# Altium schematic symbol library GlobalTop-FGPMMOPA6C_PA6C.LIB-Altium.SchLib: 1 symbol
Pins are listed as number, name and electrical type; pins without a type are passive.

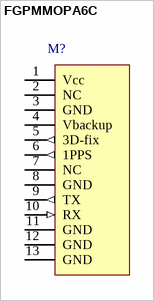
[diagram p0: symbol FGPMMOPA6C]

## FGPMMOPA6C
designator M?
GlobalTop PA6C
footprint FGPMMOPA6C (GlobalTop PA6C GPS module)
pins: 1 Vcc (power) "Main DC Power Input", 2 NC "Reset Input, Low Active", 3 GND (power) "ground", 4 Vbackup (power) "Backup Power Input for RTC & Navigation Data Retention", 5 3D-fix (out) "3D-Fix Indicator", 6 1PPS (out) "USB port D+", 7 NC "USB port D-", 8 GND (power) "Ground", 9 TX (out) "Serial Data Output for NMEA Output (UART TTL)", 10 RX (in) "Serial Data Input for Firmware Update (UART TTL)", 11 GND (power) "External antenna 3.0V input and output for external antenna.", 12 GND (power) "Ground", 13 GND (power) "1PPS Time Mark Output 2.8V CMOS Level"